# EAGLE library part A24001-010-S (library con-omnetics)
CONNECTOR wire to board 1.27 mm (0.05") pitch header
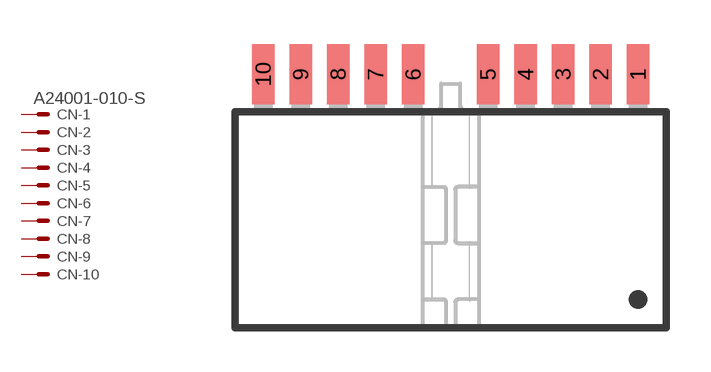
[diagram p6: symbol with the pads of A24001-010; footprint A24001-010]

Designator prefix CN; gates -1=MV -2=M -3=M -4=M -5=M -6=M -7=M -8=M -9=M -10=M

## A24001-010-S  [A24001-010]
1  -1:S  pas
2  -2:S  pas
3  -3:S  pas
4  -4:S  pas
5  -5:S  pas
6  -6:S  pas
7  -7:S  pas
8  -8:S  pas
9  -9:S  pas
10  -10:S  pas

## Footprint A24001-010 (pad centres in mm)
Connector SMD right angle, 10 pin
smd 0.762 x 2.032: 1 6.35,5.08; 2 5.08,5.08; 3 3.81,5.08; 4 2.54,5.08; 5 1.27,5.08; 6 -1.27,5.08; 7 -2.54,5.08; 8 -3.81,5.08; 9 -5.08,5.08; 10 -6.35,5.08